# EAGLE library part SPPJ222200 (library SPPJ222200)
Check availability <https://pricing.snapeda.com/parts/SPPJ222200/ALPS/view-part?ref=eda>
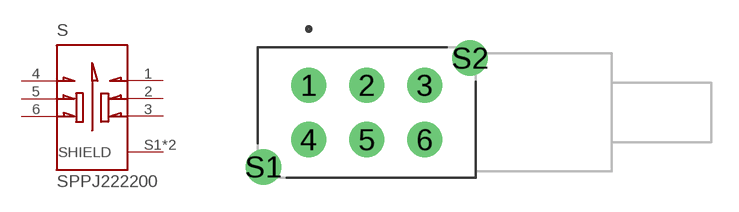
[diagram p0: symbol with the pads of SW_SPPJ222200; footprint SW_SPPJ222200]

Designator prefix S

## SPPJ222200 (Availability: In Stock; Check_prices: https://www.snapeda.com/parts/SPPJ222200/ALPS/view-part/?ref=eda; Description: Switch Push Button N.O./N.C. DPDT Plunger 0.2A 30VDC Latching PC Pins Bracket Mount/Through Hole Bulk; MF: ALPS; MP: SPPJ222200; Package: None; Price: None; SnapEDA_Link: https://www.snapeda.com/parts/SPPJ222200/ALPS/view-part/?ref=snap)  [SW_SPPJ222200]
1  1  pas
2  2  pas
3  3  pas
4  4  pas
5  5  pas
6  6  pas
S1  SHIELD  pas
S2  SHIELD  pas

## Footprint SW_SPPJ222200 (pad centres in mm)
drill 1.3: 1 -3.2,1.5; 2 0,1.5; 3 3.2,1.5; 4 -3.2,-1.5; 5 0,-1.5; 6 3.2,-1.5; S1 -5.7,-3; S2 5.7,3